# Altium footprint library RES-0402.PcbLib: 1 footprints
Each footprint in its own frame and in the unit in brackets; x right, y up, seen from the top. Pads: shape width x height; smd on the part's side, far side on the other; paste and mask are expansions set on the pad; w line width, h text height; cw(c..) or ccw(c..) is an arc to the next point about the centre after c.
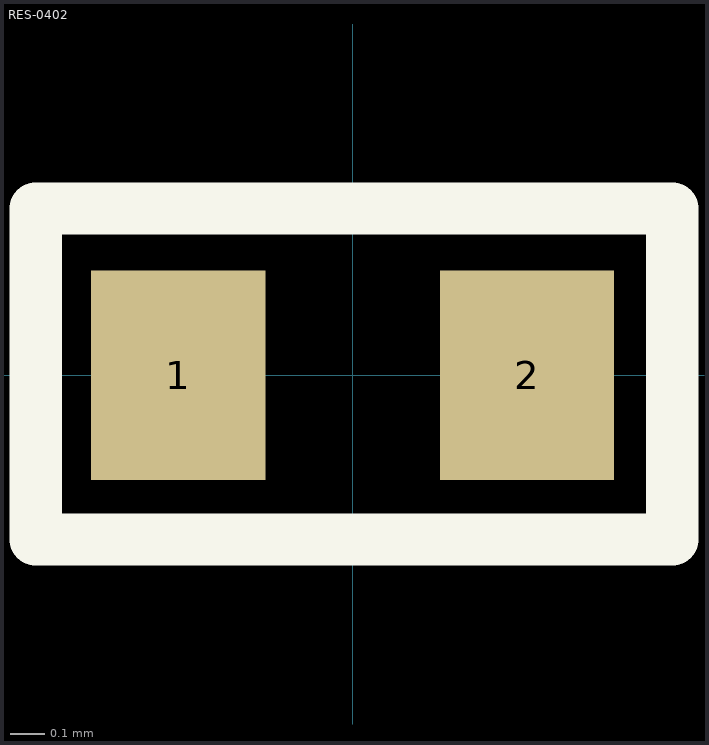
[diagram p0: the footprint, top view; thin cyan lines are the x and y axes]

## RES-0402 [mm]
pads (2):
  rect 0.5x0.6 smd: 1(-0.5,0) 2(0.5,0)
Top Overlay:
  lines w0.15: -0.909,-0.471 -0.909,0.478 0.916,0.478 0.916,-0.471 -0.909,-0.471
Top Assembly:
  lines w0.1: -0.909,-0.471 -0.909,0.478 ; -0.909,-0.471 0.916,-0.471 ; -0.909,-0.471 0.916,-0.471 ; -0.909,-0.471 -0.909,0.478 ; -0.909,0.478 0.916,0.478 ; -0.909,0.478 0.916,0.478 ; 0.916,-0.471 0.916,0.478 ; 0.916,-0.471 0.916,0.478
Top Courtyard:
  lines w0.05: -0.909,-0.471 -0.909,0.478 ; -0.909,-0.471 0.916,-0.471 ; -0.909,-0.471 0.916,-0.471 ; -0.909,-0.471 -0.909,0.478 ; -0.909,0.478 0.916,0.478 ; -0.909,0.478 0.916,0.478 ; 0.916,-0.471 0.916,0.478 ; 0.916,-0.471 0.916,0.478
Top Designator:
  text ".Designator" at -1.996,-0.129 h0.4
3D body "0402 resistor.STEP": height 0.35, standoff 0, extent -0.5,-0.275 0.5,0.225